# Altium footprint library 2sc0115t.PcbLib: 1 footprints
Each footprint in its own frame and in the unit in brackets; x right, y up, seen from the top. Pads: shape width x height; smd on the part's side, far side on the other; paste and mask are expansions set on the pad; w line width, h text height; cw(c..) or ccw(c..) is an arc to the next point about the centre after c.
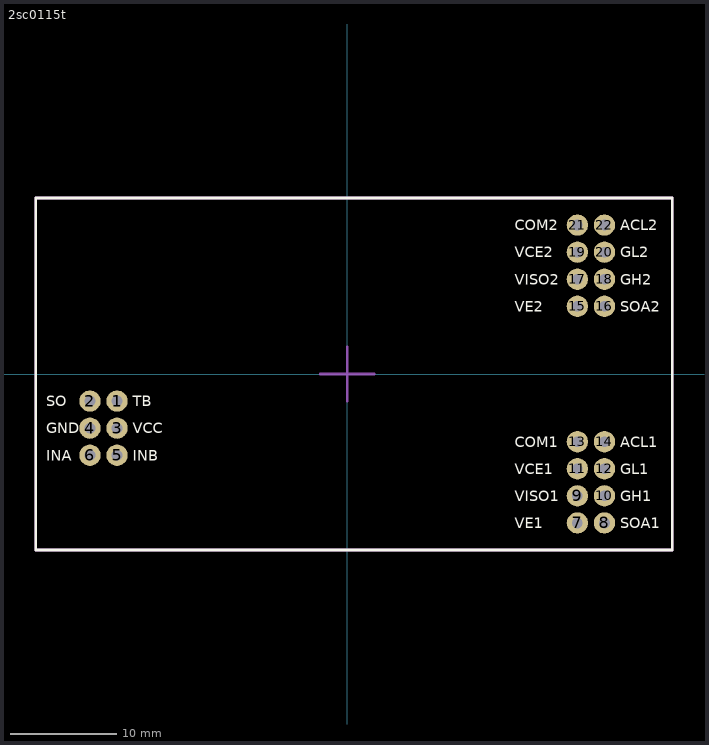
[diagram p0: the footprint, top view; thin cyan lines are the x and y axes]

## 2sc0115t [mm]
pads (22):
  round 2 hole 1: 1(-21.59,-2.54) 2(-24.13,-2.54) 3(-21.59,-5.08) 4(-24.13,-5.08) 5(-21.59,-7.62) 6(-24.13,-7.62) 7(21.59,-13.97) 8(24.13,-13.97) 9(21.59,-11.43) 10(24.13,-11.43) 11(21.59,-8.89) 12(24.13,-8.89) 13(21.59,-6.35) 14(24.13,-6.35) 15(21.59,6.35) 16(24.13,6.35) 17(21.59,8.89) 18(24.13,8.89) 19(21.59,11.43) 20(24.13,11.43) 21(21.59,13.97) 22(24.13,13.97)
Top Overlay:
  lines w0.254: -29.21,-16.51 30.48,-16.51 30.48,16.51 -29.21,16.51 -29.21,-1.27 -29.21,-16.51
  text "INA" at -28.248,-8.12 h1
  text "INB" at -20.12,-8.12 h1
  text "GND" at -28.248,-5.58 h1
  text "VCC" at -20.12,-5.58 h1
  text "SO" at -28.248,-3.04 h1
  text "TB" at -20.12,-3.04 h1
  text "VE1" at 15.694,-14.47 h1
  text "SOA1" at 25.6,-14.47 h1
  text "VISO1" at 15.694,-11.93 h1
  text "GH1" at 25.6,-11.93 h1
  text "VCE1" at 15.694,-9.39 h1
  text "GL1" at 25.6,-9.39 h1
  text "COM1" at 15.694,-6.85 h1
  text "ACL1" at 25.6,-6.85 h1
  text "VE2" at 15.694,5.85 h1
  text "SOA2" at 25.6,5.85 h1
  text "VISO2" at 15.694,8.39 h1
  text "GH2" at 25.6,8.39 h1
  text "VCE2" at 15.694,10.93 h1
  text "GL2" at 25.6,10.93 h1
  text "COM2" at 15.694,13.47 h1
  text "ACL2" at 25.6,13.47 h1
Mechanical 15:
  lines w0.254: -2.54,0 2.54,0 ; 0,-2.54 0,2.54 ; -29.21,-16.51 30.48,-16.51 30.48,16.51 -29.21,16.51 -29.21,-1.27 -29.21,-16.51
3D body "2SC0115T2A0_3D_v3.stp": height 14.38, standoff -1.62, extent -27.457,-15.494 25.629,15.518